# EAGLE library part SC16IS740IPW (library Aldebaran)
Interfaz IC UART Single UART with I2C-bus/SPI interface, 64 bytes of transmit and receive FIFOs, IrDA SIR built-in support https://www.mouser.mx/ProductDetail/NXP-Semiconductors/SC16IS741AIPWJ?qs=sGAEpiMZZMvslxq79%2fS5eSzig95fry5lqnh4%2fyIMvKk%3d
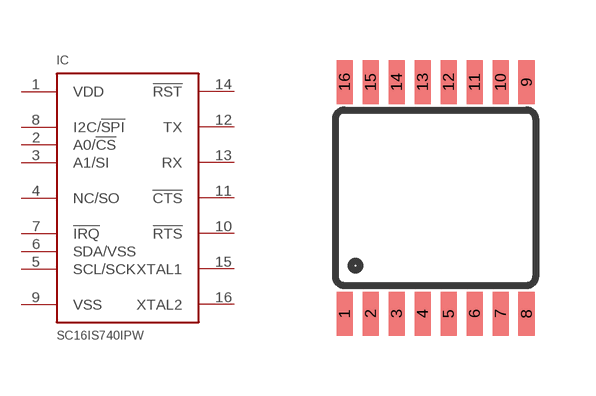
[diagram p0: symbol with the pads of TSSOP-16; footprint TSSOP-16]

Designator prefix IC

## SC16IS740IPW  [TSSOP-16]
1  VDD
2  A0/!CS
3  A1/SI
4  NC/SO
5  SCL/SCK
6  SDA/VSS
7  !IRQ
8  I2C/!SPI
9  VSS
10  !RTS
11  !CTS
12  TX
13  RX
14  !RST
15  XTAL1
16  XTAL2

## Footprint TSSOP-16 (pad centres in mm)
smd 0.4 x 1.1: 1 -2.275,-2.9; 2 -1.625,-2.9; 3 -0.975,-2.9; 4 -0.325,-2.9; 5 0.325,-2.9; 6 0.975,-2.9; 7 1.625,-2.9; 8 2.275,-2.9; 9 2.275,2.9; 10 1.625,2.9; 11 0.975,2.9; 12 0.325,2.9; 13 -0.325,2.9; 14 -0.975,2.9; 15 -1.625,2.9; 16 -2.275,2.9